# Altium footprint library mainBoard.PcbLib: 28 footprints (part 2 of 2)
Each footprint in its own frame and in the unit in brackets; x right, y up, seen from the top. Pads: shape width x height; smd on the part's side, far side on the other; paste and mask are expansions set on the pad; w line width, h text height; cw(c..) or ccw(c..) is an arc to the next point about the centre after c.
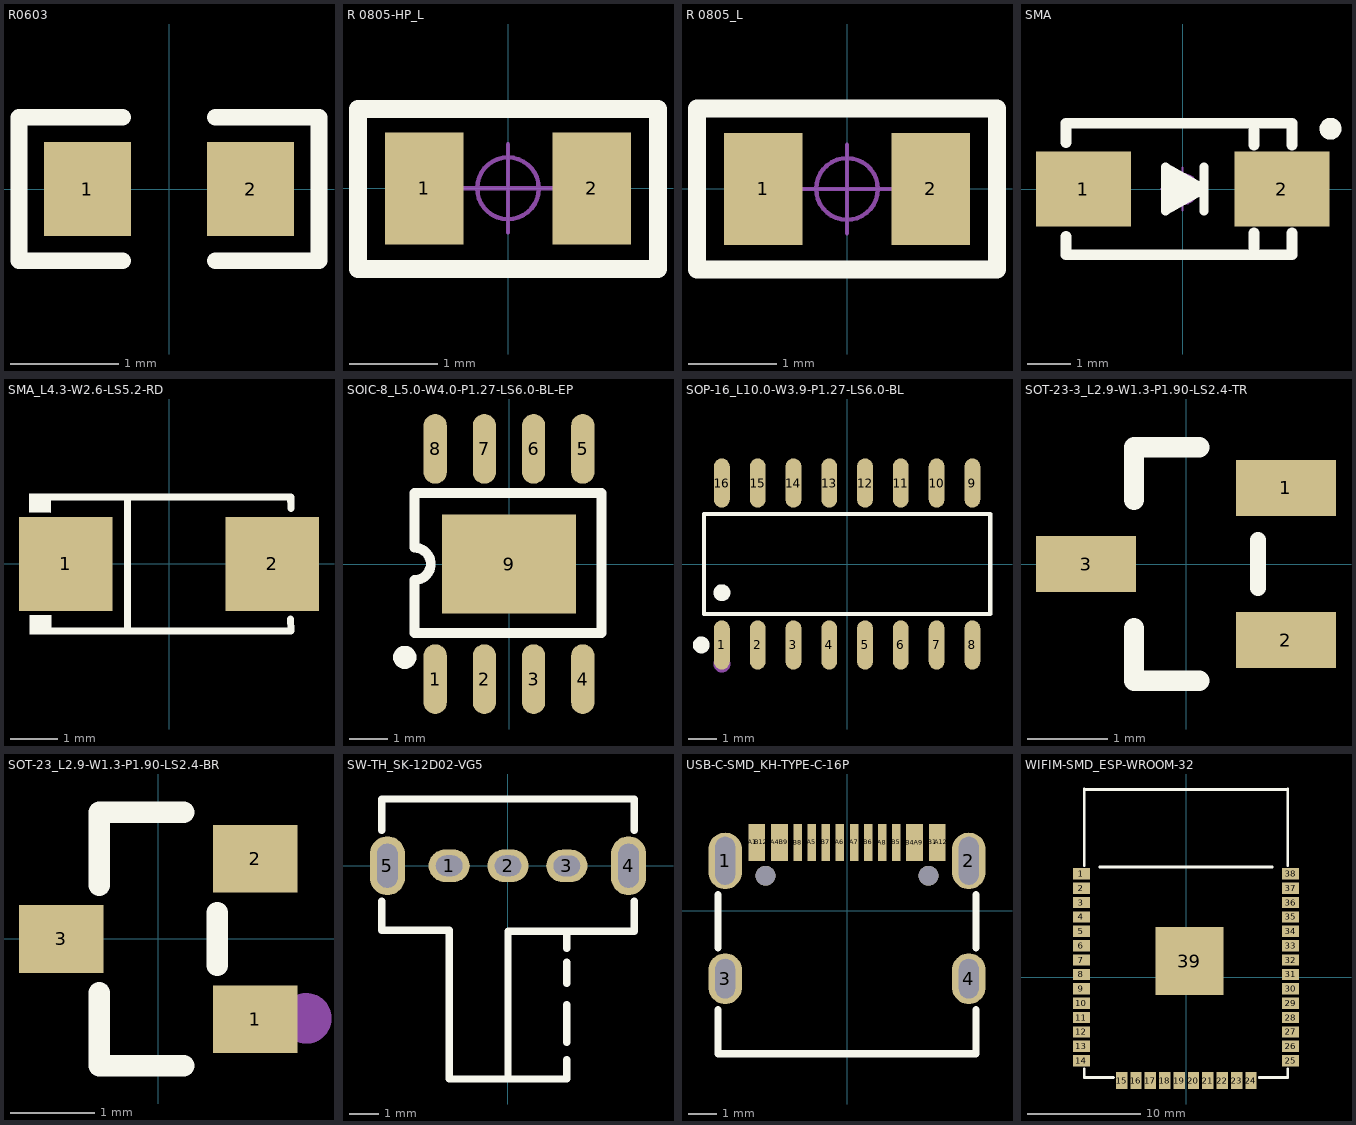
[diagram p1: the footprints below, top view; thin cyan lines are the x and y axes]

## R0603 [mil]
pads (2):
  rect 31.75x34.02 smd: 1(-29.65,0) 2(29.65,0)
Top Overlay:
  lines w6: -16.78,-26.01 -54.53,-26.01 -54.53,26.01 -16.78,26.01 ; 16.78,-26.01 54.53,-26.01 54.53,26.01 16.78,26.01
Top Paste:
  region: 47.05,17.72 15.55,17.72 13.58,15.75 13.58,6.77 28.15,6.77 28.15,-6.22 13.58,-6.22 13.58,-15.75 15.55,-17.72 47.05,-17.72 49.02,-15.75 49.02,15.75
  region: -13.98,15.75 -13.98,6.77 -28.94,6.77 -28.94,-6.22 -13.98,-6.22 -13.98,-15.75 -15.94,-17.72 -47.05,-17.72 -49.02,-15.75 -49.02,15.75 -47.05,17.72 -15.94,17.72

## R 0805-HP_L [mil]
pads (2):
  rect 35x50 smd: 1(-37.4,0) 2(37.4,0)
Top Overlay:
  lines w8: -66.93,-36 66.93,-36 66.93,35.43 -66.93,35.43 -66.93,-36
Mechanical 1:
  lines w1.97: -19.68,0 19.68,0 ; 0,-19.68 0,19.68 ; 13.78,-0.15 cw(c0,0.02) 13.78,0

## R 0805_L [mil]
pads (2):
  rect 35x50 smd: 1(-37.4,0) 2(37.4,0)
Top Overlay:
  lines w8: -66.93,-36 66.93,-36 66.93,36 -66.93,36 -66.93,-36
Mechanical 1:
  lines w1.97: -19.68,0 19.68,0 ; 0,-19.68 0,19.68 ; 13.78,-0.15 cw(c0,0.02) 13.78,0

## SMA [mm]
pads (2):
  rect 2.2x1.75 smd: 1(-2.3,0) 2(2.3,0)
Top Overlay:
  lines w0.203: 0.494,-0.508 0.494,0.508 ; -0.395,-0.508 -0.395,0.508 0.494,0 -0.395,-0.508
  lines w0.254: -2.7,-1.105 -2.7,-1.524 2.54,-1.524 2.54,-1.016 ; -2.7,1.08 -2.7,1.524 2.54,1.524 2.54,1.016 ; -0.33,0.305 0.305,0 -0.254,-0.305 -0.254,0.051 0.023,0 ; 1.651,-1.35 1.651,-1.016 ; 1.651,1.016 1.651,1.35 ; 3.429,1.524 ccw(c3.428,1.397) 3.435,1.524
Mechanical 1:
  lines w0.05: -0.5,0 0.5,0 ; 0,-0.5 0,0.5 ; 0,0.35 ccw(c0,0) 0.004,0.35

## SMA_L4.3-W2.6-LS5.2-RD [mm]
pads (2):
  rect 2x2 smd: 1(-2.2,0) 2(2.2,0)
Top Overlay:
  region: -2.52,1.502 -2.521,1.096 -2.981,1.1 -2.977,1.502
  region: -2.512,-1.096 -2.513,-1.503 -2.973,-1.498 -2.969,-1.096
  lines w0.152: -2.596,-1.426 2.596,-1.426 ; -2.596,1.426 2.596,1.426 2.603,1.187 ; -0.884,-1.426 -0.884,1.426 ; 2.593,-1.176 2.6,-1.415
Mechanical 15:
  region: -2.317,-0.101 -2.317,0.101 -1.507,0.101 -1.507,-0.101
  region: 2.317,-0.101 2.317,0.101 1.507,0.101 1.507,-0.101
  region: 2.014,-0.675 2.014,0.675 1.811,0.675 1.811,-0.675

## SOIC-8_L5.0-W4.0-P1.27-LS6.0-BL-EP [mm]
pads (9):
  oval 0.6x1.8 smd: 1(-1.905,-2.972) 2(-0.635,-2.972) 3(0.635,-2.972) 4(1.905,-2.972) 5(1.905,2.972) 6(0.635,2.972) 7(-0.635,2.972) 8(-1.905,2.972)
  rect 3.45x2.56 smd: 9(0,0)
Top Overlay:
  lines w0.254: -2.438,-1.778 2.388,-1.778 2.388,1.829 -2.413,1.829 -2.438,1.829 -2.438,0.42 cw(c-2.438,0.002) -2.438,-0.417 -2.438,-1.778
  lines w0.3: -2.692,-2.261 ccw(c-2.691,-2.411) -2.69,-2.261

## SOP-16_L10.0-W3.9-P1.27-LS6.0-BL [mm]
pads (16):
  oval 0.56x1.745 smd: 1(-4.445,-2.873) 2(-3.175,-2.873) 3(-1.905,-2.872) 4(-0.635,-2.873) 5(0.635,-2.873) 6(1.905,-2.872) 7(3.175,-2.873) 8(4.445,-2.873) 9(4.445,2.873) 10(3.175,2.873) 11(1.905,2.872) 12(0.635,2.873) 13(-0.635,2.873) 14(-1.905,2.872) 15(-3.175,2.873) 16(-4.445,2.873)
Top Overlay:
  circle w0.3: c-4.445,-1.019 r0.15
  circle w0.3: c-5.177,-2.872 r0.15
  lines w0.152: -5.076,-1.771 -5.076,1.771 5.076,1.771 5.076,-1.771 -5.076,-1.771
Mechanical 15:
  circle w0.3: c-4.445,-3.55 r0.15

## SOT-23-3_L2.9-W1.3-P1.90-LS2.4-TR [mm]
pads (3):
  rect 1.25x0.7 smd: 1(1.25,0.95) 2(1.25,-0.95) 3(-1.25,0)
Top Overlay:
  lines w0.2: 0.9,-0.3 0.9,0.3
  lines w0.254: -0.65,-0.8 -0.65,-1.46 0.165,-1.46 ; 0.165,1.46 -0.65,1.46 ; -0.65,0.8 -0.65,1.46 ; -0.65,0.8 -0.65,1.46 ; -0.65,0.8 -0.65,1.46
Mechanical 15:
  circle w0.254: c1.496,0.945 r0.127

## SOT-23_L2.9-W1.3-P1.90-LS2.4-BR [mm]
pads (3):
  rect 1x0.8 smd: 1(1.15,-0.95) 2(1.15,0.95) 3(-1.15,0)
Top Overlay:
  lines w0.254: -0.7,-0.636 -0.7,-1.5 0.3,-1.5 ; -0.7,0.636 -0.7,1.5 0.3,1.5 ; 0.7,-0.314 0.7,0.314
Mechanical 15:
  circle w0.3: c1.753,-0.94 r0.15

## SW-TH_SK-12D02-VG5 [mm]
pads (5):
  oval 1.4x1.1 hole 0.7 slot 0.9 at 0 deg: 1(-2,0.001) 2(0,0) 3(2,-0.001)
  oval 1.2x2 hole 0.7 slot 1.5 at 90 deg: 4(4.1,0) 5(-4.1,0)
Top Overlay:
  lines w0.254: -4.3,-1.207 -4.3,-2.2 -2.032,-2.2 -2,-2.2 -2,-7.25 0,-7.25 ; -4.3,1.207 -4.3,2.27 4.3,2.27 4.3,1.207 ; 2,-6.6 2,-7.25 0,-7.25 ; 2,-6 2,-4.73 ; 2,-4 2,-3.28 ; 2,-2.8 2,-2.22 ; 4.3,-1.207 4.3,-2.22 0,-2.22 0,-7.25

## USB-C-SMD_KH-TYPE-C-16P [mm]
pads (22):
  oval 1.2x2 hole 0.7 slot 1.7 at 90 deg: 1(-4.32,1.765) 2(4.32,1.765)
  oval 1.2x1.8 hole 0.7 slot 1.4 at 90 deg: 3(-4.32,-2.415) 4(4.32,-2.415)
  rect 0.3x1.3 smd: A1(-3.35,2.415) A4(-2.55,2.415) A5(-1.25,2.415) A6(-0.25,2.415) A7(0.25,2.415) A8(1.25,2.415) A9(2.55,2.415) A12(3.35,2.415) B1(3.05,2.415) B4(2.25,2.415) B5(1.75,2.415) B6(0.75,2.415) B7(-0.75,2.415) B8(-1.75,2.415) B9(-2.25,2.415) B12(-3.05,2.415)
  round 0.7 hole 0.7 unplated: ""(-2.89,1.235) ""(2.89,1.235)
Top Overlay:
  lines w0.254: -4.572,-3.507 -4.572,-5.08 4.572,-5.08 4.572,-3.507 ; -4.572,-1.323 -4.572,0.573 ; 4.572,-1.323 4.572,0.573
Top Paste:
  region: -4.92,2.165 -4.92,2.284 -4.828,2.505 -4.66,2.674 -4.439,2.765 -4.2,2.765 -3.98,2.674 -3.811,2.505 -3.72,2.284 -3.72,2.165 -3.72,1.365 -3.72,1.246 -3.811,1.025 -3.98,0.856 -4.2,0.765 -4.439,0.765 -4.66,0.856 -4.828,1.025 -4.92,1.246 -4.92,1.365
  region: -4.92,-2.115 -4.92,-1.996 -4.828,-1.775 -4.66,-1.607 -4.439,-1.515 -4.2,-1.515 -3.98,-1.607 -3.811,-1.775 -3.72,-1.996 -3.72,-2.115 -3.72,-2.715 -3.72,-2.835 -3.811,-3.055 -3.98,-3.224 -4.2,-3.315 -4.439,-3.315 -4.66,-3.224 -4.828,-3.055 -4.92,-2.835 -4.92,-2.715
  region: 3.72,2.165 3.722,2.283 3.814,2.502 3.983,2.668 4.202,2.758 4.439,2.758 4.658,2.668 4.826,2.501 4.919,2.283 4.92,2.165 4.92,1.365 4.919,1.246 4.826,1.028 4.658,0.862 4.439,0.772 4.202,0.772 3.983,0.862 3.814,1.028 3.722,1.246 3.72,1.365
  region: 3.72,-2.115 3.722,-1.997 3.814,-1.779 3.983,-1.612 4.202,-1.522 4.439,-1.522 4.658,-1.612 4.826,-1.779 4.919,-1.997 4.92,-2.115 4.92,-2.715 4.919,-2.834 4.826,-3.052 4.658,-3.218 4.439,-3.308 4.202,-3.308 3.983,-3.218 3.814,-3.052 3.722,-2.834 3.72,-2.715
  region: -3.45,3.01 -2.95,3.01 -2.95,1.82 -3.45,1.82
  region: 2.95,3.01 3.45,3.01 3.45,1.82 2.95,1.82
  region: 2.15,3.01 2.65,3.01 2.65,1.82 2.15,1.82
  region: -2.65,3.01 -2.15,3.01 -2.15,1.82 -2.65,1.82
  region: 1.6,3.06 1.9,3.06 1.9,1.77 1.6,1.77
  region: 0.1,3.06 0.4,3.06 0.4,1.77 0.1,1.77
  region: -0.4,3.06 -0.1,3.06 -0.1,1.77 -0.4,1.77
  region: -0.9,3.06 -0.6,3.06 -0.6,1.77 -0.9,1.77
  region: -1.43,3.025 -1.13,3.025 -1.13,1.735 -1.43,1.735
  region: -1.9,3.06 -1.6,3.06 -1.6,1.77 -1.9,1.77
  region: 0.6,3.06 0.9,3.06 0.9,1.77 0.6,1.77
  region: 1.1,3.06 1.4,3.06 1.4,1.77 1.1,1.77

## WIFIM-SMD_ESP-WROOM-32 [mil]
pads (39):
  rect 59.1x39.4 smd: 1(-364,359.5) 2(-364,309.5) 3(-364,259.5) 4(-364,209.5) 5(-364,159.5) 6(-364,109.5) 7(-364,59.5) 8(-364,9.5) 9(-364,-40.5) 10(-364,-90.5) 11(-364,-140.5) 12(-364,-190.5) 13(-364,-240.5) 14(-364,-290.5) 25(364,-290.5) 26(364,-240.5) 27(364,-190.5) 28(364,-140.5) 29(364,-90.5) 30(364,-40.5) 31(364,9.5) 32(364,59.5) 33(364,109.5) 34(364,159.5) 35(364,209.5) 36(364,259.5) 37(364,309.5) 38(364,359.5)
  rect 39.4x59.1 smd: 15(-224,-359.5) 16(-174,-359.5) 17(-124,-359.5) 18(-74,-359.5) 19(-24,-359.5) 20(26,-359.5) 21(76,-359.5) 22(126,-359.5) 23(176,-359.5) 24(226,-359.5)
  rect 236.2x236.2 smd: 39(12,55.5)
Top Overlay:
  lines w10: -354,-319.3 -354,-349.5 -252.8,-349.5 ; -354,388.3 -354,654.5 ; -354,652.17 354,652.17 ; -300,383.5 300,383.5 ; 254.8,-349.5 354,-349.5 354,-319.3 ; 354,388.3 354,654.5